# EAGLE library part MCP4017 (library lightsuits)
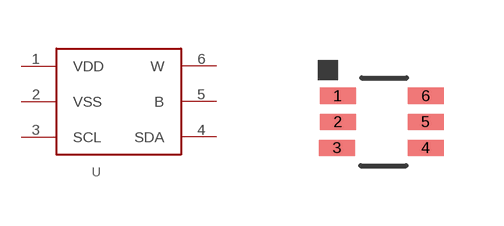
[diagram p2: symbol with the pads of SOT-363; footprint SOT-363]

Designator prefix -

## MCP4017  [SOT-363]
1  VDD
2  VSS
3  SCL
4  SDA
5  B
6  W

## Footprint SOT-363 (pad centres in mm)
smd 0.9 x 0.4: 1 0,0; 2 0,-0.65; 3 -0.02,-1.3; 4 2.2,-1.3; 5 2.2,-0.65; 6 2.2,0